# EAGLE library part 62002021821 (library Wuerth_Elektronik_eiCan_Pin_&_Socked_Headers_v1.3)
WR-PHD 2.00mm Dual Socket Header, 20 Pins
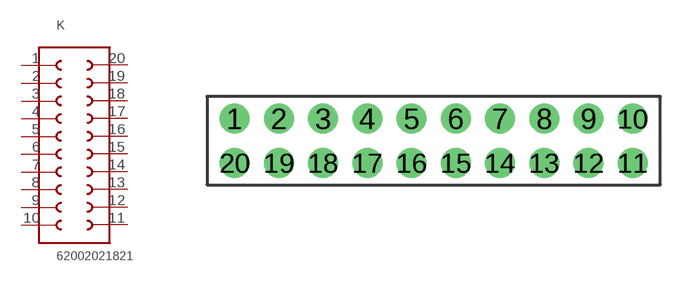
[diagram p297: symbol with the pads of 62002021821; footprint 62002021821]

Designator prefix K

## 62002021821  [62002021821]
1  1  pas
2  2  pas
3  3  pas
4  4  pas
5  5  pas
6  6  pas
7  7  pas
8  8  pas
9  9  pas
10  10  pas
11  11  pas
12  12  pas
13  13  pas
14  14  pas
15  15  pas
16  16  pas
17  17  pas
18  18  pas
19  19  pas
20  20  pas

## Footprint 62002021821 (pad centres in mm)
WR-PHD 2.00mm Dual Socket Header, 20 Pins
drill 0.85 round: 1 -9,1; 2 -7,1; 3 -5,1; 4 -3,1; 5 -1,1; 6 1,1; 7 3,1; 8 5,1; 9 7,1; 10 9,1; 11 9,-1; 12 7,-1; 13 5,-1; 14 3,-1; 15 1,-1; 16 -1,-1; 17 -3,-1; 18 -5,-1; 19 -7,-1; 20 -9,-1